# Altium footprint library 自锁开关.PcbLib: 1 footprints
Each footprint in its own frame and in the unit in brackets; x right, y up, seen from the top. Pads: shape width x height; smd on the part's side, far side on the other; paste and mask are expansions set on the pad; w line width, h text height; cw(c..) or ccw(c..) is an arc to the next point about the centre after c.
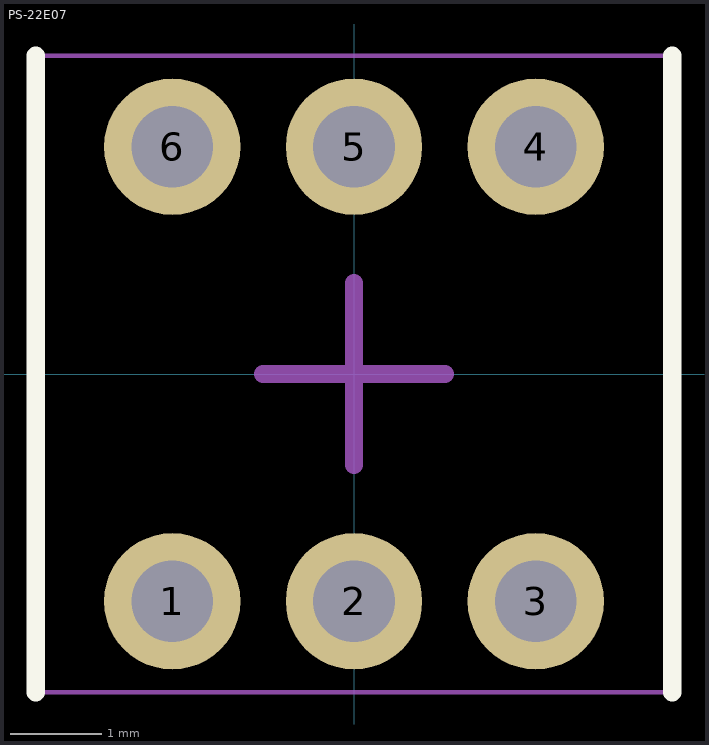
[diagram p0: the footprint, top view; thin cyan lines are the x and y axes]

## PS-22E07 [mm] "自锁开关"
height 13.5
pads (6):
  round 1.5 hole 0.9 unplated: 1(-2,-2.5) 2(0,-2.5) 3(2,-2.5) 4(2,2.5) 5(0,2.5) 6(-2,2.5)
Top Overlay:
  lines w0.2: -3.5,-3.5 -3.5,3.5 ; 3.5,-3.5 3.5,3.5
Mechanical 13:
  lines w0.05: -3.5,-3.5 3.5,-3.5 3.5,3.5 -3.5,3.5 -3.5,-3.5
Mechanical 15:
  lines w0.2: -1,0 1,0 ; 0,-1 0,1
3D body: height 12.6, standoff -3.5, extent -3.5,-3.5 3.5,3.5